# EAGLE library part ATTINY841 (library IntegerLabs)
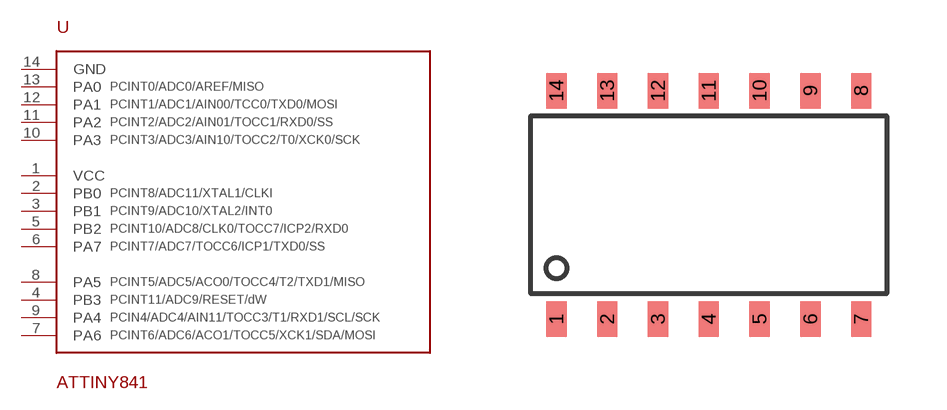
[diagram p2: symbol with the pads of SOIC14; footprint SOIC14]

Designator prefix U

## ATTINY841 (VALUE: attiny841-ssur)  [SOIC14]
1  VCC
2  PB0
3  PB1
4  PB3
5  PB2
6  PA7
7  PA6
8  PA5
9  PA4
10  PA3
11  PA2
12  PA1
13  PA0
14  GND

## Footprint SOIC14 (pad centres in mm)
smd 0.508 x 0.889: 1 0,-3.175; 2 1.27,-3.175; 3 2.54,-3.175; 4 3.81,-3.175; 5 5.08,-3.175; 6 6.35,-3.175; 7 7.62,-3.175; 8 7.62,2.54; 9 6.35,2.54; 10 5.08,2.54; 11 3.81,2.54; 12 2.54,2.54; 13 1.27,2.54; 14 0,2.54